# Altium schematic symbol library ERJ-C1CFR03U.SchLib: 1 symbol
Pins are listed as number, name and electrical type; pins without a type are passive.

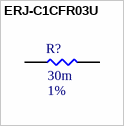
[diagram p0: symbol ERJ-C1CFR03U]

## ERJ-C1CFR03U
designator R?  Resistance: 30m  Tolerance: 1%  (hidden comment: ERJ-C1CFR03U)
Thick Film Resistors - SMD 2010 .03 ohm WideTrm Anti-Sulfur AEC-Q200; MFR: Panasonic; Power Rating: 2W; PN: ERJ-C1CFR03U; Footprint: RES0210; Package: 0210; ComponentLink1Description: Datasheet; Supplier 1: Mouser; Supplier Part Number 1: 667-ERJ-C1CFR03U
pins: 1, 2